# Altium integrated library STM32F410CBUx.IntLib: 1 symbol
Pins are listed as number, name and electrical type; pins without a type are passive.

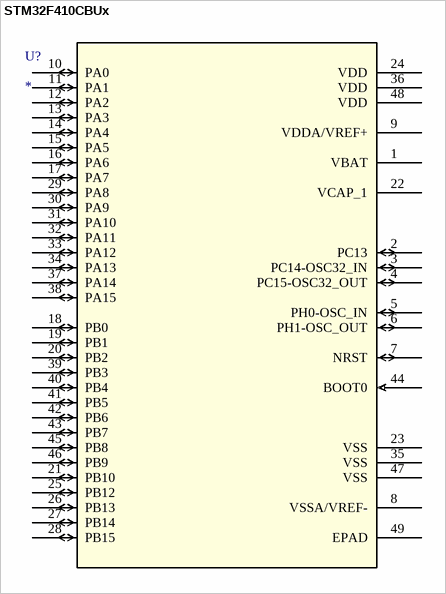
[diagram p0: symbol STM32F410CBUx]

## STM32F410CBUx
designator U?
IC MCU 32BIT 128KB FLASH 48QFPN / Manufacturer PN: STM32F410CBU6 or STM32F410CBT6; Manufacturer_Part_Number: stm32f4xxc2; Vendor: STMicroelectronics; C: Copyright (C) 2016 Accelerated Designs. All rights reserved; Copyright: Copyright (C) 2016 Accelerated Designs. All rights reserved; RefDes: RefDes; Type: DEV; Value: Value
footprint UFQFPN-48_7X7X00
footprint UFQFPN-48_7X7X01
footprint UFQFPN-48_7X7X0P
pins: 1 VBAT (power), 2 PC13, 3 PC14-OSC32_IN, 4 PC15-OSC32_OUT, 5 PH0-OSC_IN, 6 PH1-OSC_OUT, 7 NRST, 8 VSSA/VREF- (power), 9 VDDA/VREF+ (power), 10 PA0, 11 PA1, 12 PA2, 13 PA3, 14 PA4, 15 PA5, 16 PA6, 17 PA7, 18 PB0, 19 PB1, 20 PB2, 21 PB10, 22 VCAP_1 (power), 23 VSS (power), 24 VDD (power), 25 PB12, 26 PB13, 27 PB14, 28 PB15, 29 PA8, 30 PA9, 31 PA10, 32 PA11, 33 PA12, 34 PA13, 35 VSS (power), 36 VDD (power), 37 PA14, 38 PA15, 39 PB3, 40 PB4, 41 PB5, 42 PB6, 43 PB7, 44 BOOT0 (in), 45 PB8, 46 PB9, 47 VSS (power), 48 VDD (power), 49 EPAD